# Altium schematic symbol library Chronos.SchLib: 115 symbols
Pins are listed as number, name and electrical type; pins without a type are passive.

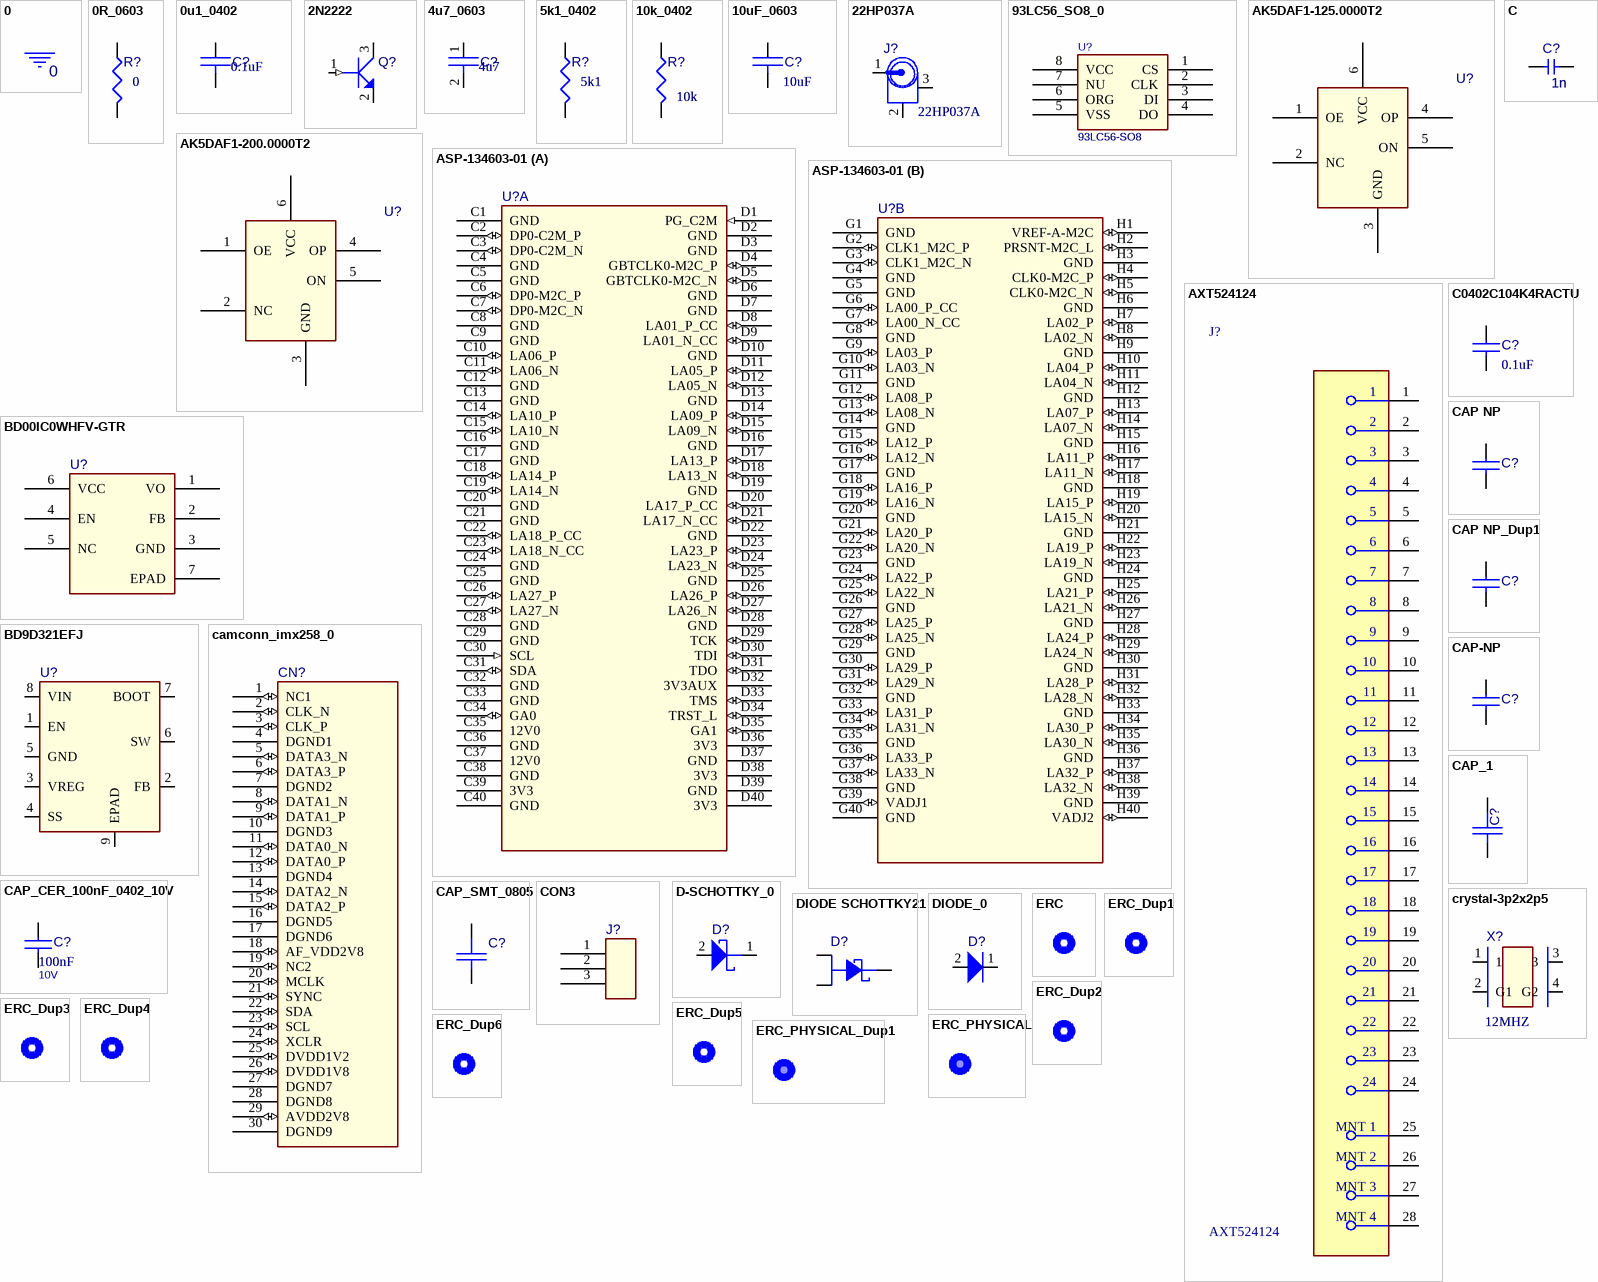
[diagram p0: symbols 0 to ERC_PHYSICAL_Dup1]

## 0
designator *  NODENAME: 0  (hidden comment: *)  (graphical)
PSpiceOnly: TRUE
pins: GND (power) hidden to GND

## 0R_0603
designator R?, comment 0
Res 1/10W 0.0 Ohm 5% 0603; Manufacturer: Yageo; Manufacturer Part Number: RC0603JR-070RL; Class: Discrete; Digikey P/N: 311-0.0GRTR-ND; Value: 0
footprint cr0603
pins: 1, 2

## 0u1_0402
designator C?, comment 0.1uF
CAP CERAMIC 0.1UF 16V X7R 0402; Manufacturer: Kemet; Manufacturer Part Number: C0402C104K4RACTU; Class: Discrete; Digikey P/N: 399-3521-2-ND; Value: 0.1uF
footprint cc0402
pins: 1, 2

## 2N2222
designator Q?
footprint SOT-23
pins: 1 BASE (in), 2 EMITTER, 3 COLLECTOR

## 4u7_0603
designator C?, comment 4u7
Cap Cer 4.7uF 6.3V 10% X5R 0603; Manufacturer Part Number: ECJ-1VB0J475K; Part Number: 102033; Manufacturer: Panasonic; Tolerance: 5%; Class: Discrete; Voltage: 6.3V; Digikey SN: PCC2006TR-ND; Value: 4u7
footprint cc0603
pins: 1, 2

## 5k1_0402
designator R?, comment 5k1
Res 1/16W 5.1K 1% 0402; Manufacturer Part Number: RC0402FR-075K1L; Manufacturer: Yageo; Class: Discrete; Digikey P/N: 311-5.10KLRTR-ND; Value: 5k1
footprint cr0402
pins: 1, 2

## 10k_0402
designator R?, comment 10k
Res 1/16W 10.0K 1% 0402; Manufacturer: Yageo; Manufacturer Part Number: RC0402FR-0710KL; Class: Discrete; Digikey P/N: 311-10.0KLRTR-ND; Value: 10k
footprint cr0402
pins: 1, 2

## 10uF_0603
designator C?, comment 10uF
CAP CECAP CER 10UF 10V X5R 20% 0603; Manufacturer: Taiyo Yuden; Manufacturer Part Number: LMK107BJ106MALTD; Class: Discrete; Digikey P/N: 587-2562-1-ND; Value: 10uF
footprint cc0603
pins: 1, 2

## 22HP037A
designator J?
Male Power Jack 2.5mm; Value: 22HP037A
footprint 22HP037A
pins: 1 +5V, 2 GND (power), 3 GND (power)

## 93LC56_SO8_0
designator U?, comment 93LC56-SO8
IC 93LC56 EEPROM; Manufacturer: Microchip; Manufacturer Part Number: 93LC56C-I/SN; Digikey P/N: 93LC56C-I/SN-ND; Class: IC; Value: 93LC56-SO8
footprint so8_50_244
pins: 1 CS, 2 CLK, 3 DI, 4 DO, 5 VSS (power), 6 ORG, 7 NU, 8 VCC (power)

## AK5DAF1-125.0000T2
designator U?
pins: 1 OE, 2 NC, 3 GND, 4 OP, 5 ON, 6 VCC

## AK5DAF1-200.0000T2
designator U?
pins: 1 OE, 2 NC, 3 GND, 4 OP, 5 ON, 6 VCC

## ASP-134603-01
designator U?
SPLIT_INST: TRUE; SWAP_INFO: (S1+S2)
part A pins: C1 GND (power), C2 DP0-C2M_P (io), C3 DP0-C2M_N (io), C4 GND (power), C5 GND (power), C6 DP0-M2C_P (io), C7 DP0-M2C_N (io), C8 GND (power), C9 GND (power), C10 LA06_P (io), C11 LA06_N (io), C12 GND (power), C13 GND (power), C14 LA10_P (io), C15 LA10_N (io), C16 GND (power), C17 GND (power), C18 LA14_P (io), C19 LA14_N (io), C20 GND (power), C21 GND (power), C22 LA18_P_CC (io), C23 LA18_N_CC (io), C24 GND (power), C25 GND (power), C26 LA27_P (io), C27 LA27_N (io), C28 GND (power), C29 GND (power), C30 SCL (in), C31 SDA (io), C32 GND (power), C33 GND (power), C34 GA0 (io), C35 12V0 (power), C36 GND (power), C37 12V0 (power), C38 GND (power), C39 3V3 (power), C40 GND (power), D1 PG_C2M (in), D2 GND (power), D3 GND (power), D4 GBTCLK0-M2C_P (io), D5 GBTCLK0-M2C_N (io), D6 GND (power), D7 GND (power), D8 LA01_P_CC (io), D9 LA01_N_CC (io), D10 GND (power), D11 LA05_P (io), D12 LA05_N (io), D13 GND (power), D14 LA09_P (io), D15 LA09_N (io), D16 GND (power), D17 LA13_P (io), D18 LA13_N (io), D19 GND (power), D20 LA17_P_CC (io), D21 LA17_N_CC (io), D22 GND (power), D23 LA23_P (io), D24 LA23_N (io), D25 GND (power), D26 LA26_P (io), D27 LA26_N (io), D28 GND (power), D29 TCK (io), D30 TDI (io), D31 TDO (io), D32 3V3AUX (power), D33 TMS (io), D34 TRST_L (io), D35 GA1 (io), D36 3V3 (power), D37 GND (power), D38 3V3 (power), D39 GND (power), D40 3V3 (power)
part B pins: G1 GND (power), G2 CLK1_M2C_P (io), G3 CLK1_M2C_N (io), G4 GND (power), G5 GND (power), G6 LA00_P_CC (io), G7 LA00_N_CC (io), G8 GND (power), G9 LA03_P (io), G10 LA03_N (io), G11 GND (power), G12 LA08_P (io), G13 LA08_N (io), G14 GND (power), G15 LA12_P (io), G16 LA12_N (io), G17 GND (power), G18 LA16_P (io), G19 LA16_N (io), G20 GND (power), G21 LA20_P (io), G22 LA20_N (io), G23 GND (power), G24 LA22_P (io), G25 LA22_N (io), G26 GND (power), G27 LA25_P (io), G28 LA25_N (io), G29 GND (power), G30 LA29_P (io), G31 LA29_N (io), G32 GND (power), G33 LA31_P (io), G34 LA31_N (io), G35 GND (power), G36 LA33_P (io), G37 LA33_N (io), G38 GND (power), G39 VADJ1 (io), G40 GND (power), H1 VREF-A-M2C (io), H2 PRSNT-M2C_L (io), H3 GND (power), H4 CLK0-M2C_P (io), H5 CLK0-M2C_N (io), H6 GND (power), H7 LA02_P (io), H8 LA02_N (io), H9 GND (power), H10 LA04_P (io), H11 LA04_N (io), H12 GND (power), H13 LA07_P (io), H14 LA07_N (io), H15 GND (power), H16 LA11_P (io), H17 LA11_N (io), H18 GND (power), H19 LA15_P (io), H20 LA15_N (io), H21 GND (power), H22 LA19_P (io), H23 LA19_N (io), H24 GND (power), H25 LA21_P (io), H26 LA21_N (io), H27 GND (power), H28 LA24_P (io), H29 LA24_N (io), H30 GND (power), H31 LA28_P (io), H32 LA28_N (io), H33 GND (power), H34 LA30_P (io), H35 LA30_N (io), H36 GND (power), H37 LA32_P (io), H38 LA32_N (io), H39 GND (power), H40 VADJ2 (io)

## AXT524124
designator J?
AXT524124 24 Position 0.4 mm Pitch Dual Row Board to Board Socket Narrow Pitch Connector; NexarPartId: 7879795; Max Current Rating: 5A; Mated Stacking Heights: 1mm; Current Rating: 300mA; Voltage Rating: 60V; Max Voltage Rating (DC): 6.06kV; Number of Positions: 24; Contact Resistance: 90mΩ; Insulation Resistance: 1GΩ; Gender: Receptacle; Pitch: 400µm; Orientation: Straight; Max Operating Temperature: 85°C; Packaging: Cut Tape (CT); Depth: 3mm; Housing Material: Polymer; Ambient Temperature Range High: 85°C; Contact Plating: Gold; Mount: Surface Mount; Termination: Solder; Lead Free: Lead Free; Max Voltage Rating (AC): 60V; Length: 7.3mm; Contact Material: Gold, Nickel; Min Operating Temperature: -55°C; Height: 1.17mm; Number of Contacts: 24; Radiation Hardening: No; Connector Type: Socket; Number of Rows: 2; RoHS: Compliant
footprint FP-AXT524124-MFG
pins: 1, 2, 3, 4, 5, 6, 7, 8, 9, 10, 11, 12, 13, 14, 15, 16, 17, 18, 19, 20, 21, 22, 23, 24, 25 MNT 1, 26 MNT 2, 27 MNT 3, 28 MNT 4

## BD00IC0WHFV-GTR
designator U?
pins: 1 VO (power), 2 FB (power), 3 GND (power), 4 EN (power), 5 NC (power), 6 VCC (power), 7 EPAD (power)

## BD9D321EFJ
designator U?
pins: 1 EN, 2 FB, 3 VREG, 4 SS, 5 GND, 6 SW, 7 BOOT, 8 VIN, 9 EPAD

## C
designator C?, comment 1n
DIST: FLAT; PSpiceTemplate: C^@REFDES %1 %2 ?TOLERANCE|C^@REFDES| @VALUE ?IC/IC=@IC/ ?TOLERANCE|\n.model C^@REFDES CAP C=1 DEV=@TOLERANCE%|; VOLTAGE: CMAX; CURRENT: CIMAX; KNEE: CBMAX; SLOPE: CSMAX; MAX_TEMP: CTMAX; Value: 1n
footprint RAD/CK05
simulation model C
pins: 1, 2

## C0402C104K4RACTU
designator C?, comment 0.1uF
CAP CER 0.1UF 16V 10% X7R 0402; MFG: TDK; Cost Ea/1k: 0.015; MFG P/N: C0402C104K4RACTU; Digikey P/N: 399-3521-2-ND; Value: 0.1uF
footprint cc0402
pins: 1, 2

## camconn_imx258_0
designator CN?
pins: 1 NC1 (io), 2 CLK_N (io), 3 CLK_P (io), 4 DGND1, 5 DATA3_N (io), 6 DATA3_P (io), 7 DGND2, 8 DATA1_N (io), 9 DATA1_P (io), 10 DGND3, 11 DATA0_N (io), 12 DATA0_P (io), 13 DGND4, 14 DATA2_N (io), 15 DATA2_P (io), 16 DGND5, 17 DGND6, 18 AF_VDD2V8 (io), 19 NC2 (io), 20 MCLK (io), 21 SYNC (io), 22 SDA (io), 23 SCL (io), 24 XCLR (io), 25 DVDD1V2 (io), 26 DVDD1V8 (io), 27 DGND7, 28 DGND8, 29 AVDD2V8 (io), 30 DGND9

## CAP NP
designator C?
pins: 1, 2

## CAP NP_Dup1
designator C?
pins: 1, 2

## CAP-NP
designator C?
footprint 0603
pins: 1, 2

## CAP_1
designator C?
footprint 0603SMT
pins: 1, 2

## CAP_CER_100nF_0402_10V
designator C?, comment 100nF  Voltage: 10V
CAP CER 100nf 10V 10% X5R 0402; Total Area(sq-mm): 0.5; MFG P/N: GRM155R61A104KA01D; MFG: Murata; Unit Price (USD): 0.1; Length(mm): 1; Width(mm): 0.5; Value: 100nF
footprint C0402
pins: 1, 2

## CAP_SMT_0805
designator C?
footprint 0603SMT
pins: 1, 2

## CON3
designator J?
pins: 1, 2, 3

## crystal-3p2x2p5
designator X?, comment 12MHZ
12Mhz Crystal; Manufacturer Part Number: 7M-12.000MAAJ-T; Manufacturer: TXC; Class: IC; Digikey P/N: 887-1121-2-ND; Value: 12MHZ
footprint crystal_4p_3p2x2p5
pins: 1, 2 G1, 3, 4 G2

## D-SCHOTTKY_0
designator D?
pins: 1, 2

## DIODE SCHOTTKY21
designator D?
pins: 1 Anode1, 2 Anode2, 3 K

## DIODE_0
designator D?
pins: 1, 2

## ERC
designator *  (value not drawn)  (graphical)

## ERC_Dup1
designator *  (value not drawn)  (graphical)

## ERC_Dup2
designator *  (value not drawn)  (graphical)

## ERC_Dup3
designator *  (value not drawn)  (graphical)

## ERC_Dup4
designator *  (value not drawn)  (graphical)

## ERC_Dup5
designator *  (value not drawn)  (graphical)

## ERC_Dup6
designator *  (value not drawn)  (graphical)

## ERC_PHYSICAL
designator *  (value not drawn)  (graphical)

## ERC_PHYSICAL_Dup1
designator *  (value not drawn)  (graphical)

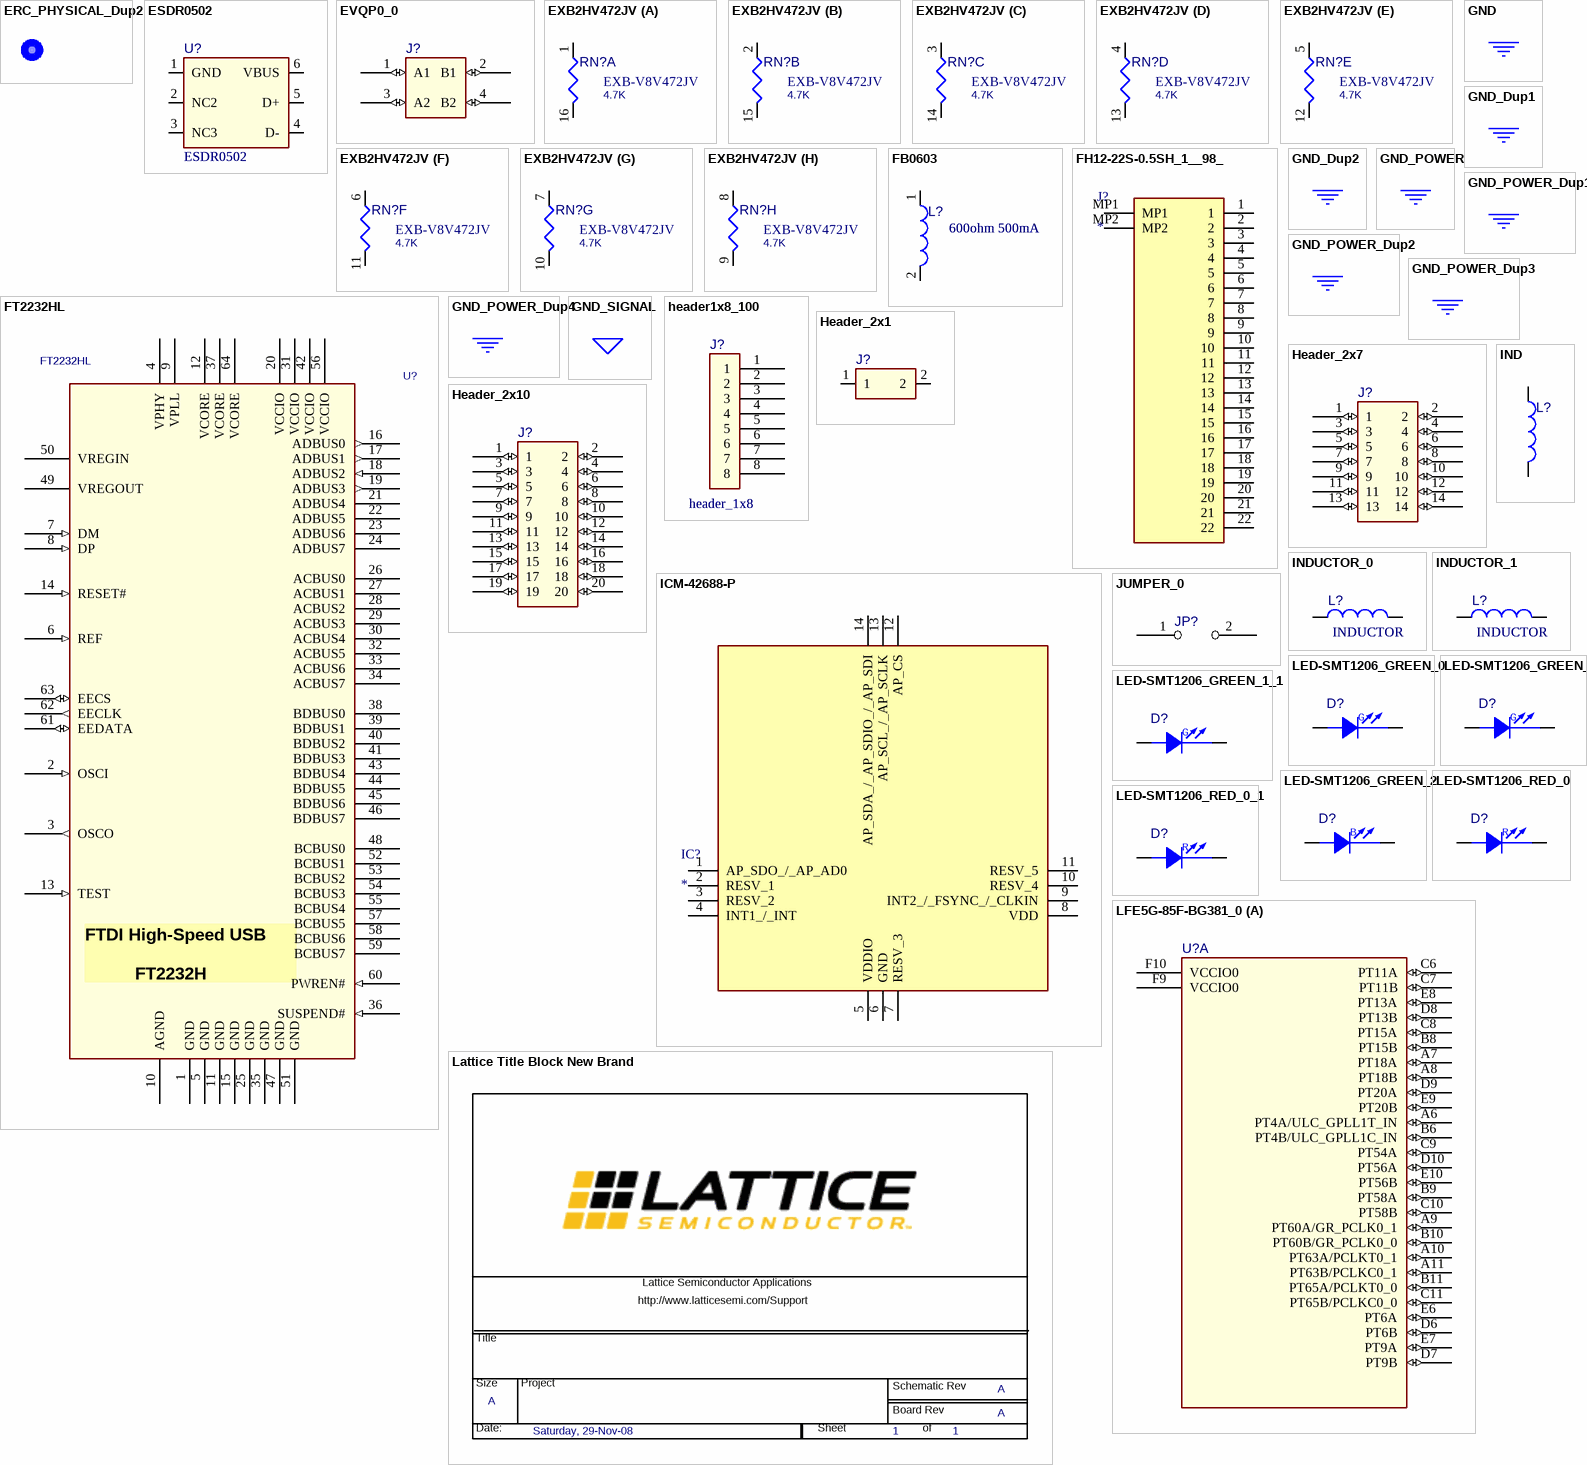
[diagram p1: symbols ERC_PHYSICAL_Dup2 to LFE5G-85F-BG381_0]

## ERC_PHYSICAL_Dup2
designator *  (value not drawn)  (graphical)

## ESDR0502
designator U?
ESD Protection - SLP2510P8 package 8-PIN; ALS LIB: L0000; CLASS: IC; Vendor: Digikey; MFG: Semtech; MFG P/N: RClamp0524P; Vendor P/N: RCLAMP0524PTR-ND; Value: ESDR0502
footprint ESDR0502
pins: 1 GND, 2 NC2, 3 NC3, 4 D-, 5 D+, 6 VBUS

## EVQP0_0
designator J?
pins: 1 A1 (io), 2 B1 (io), 3 A2 (io), 4 B2 (io)

## EXB2HV472JV
designator RN?, comment RESVALUE: 4.7K  (hidden comment: EXB-V8V472JV)
Value: EXB-V8V472JV
footprint EXB-2HV
part A pins: 1 8, 16 9
part B pins: 2 8, 15 9
part C pins: 3 8, 14 9
part D pins: 4 8, 13 9
part E pins: 5 8, 12 9
part F pins: 6 8, 11 9
part G pins: 7 8, 10 9
part H pins: 8, 9

## FB0603
designator L?, comment 600ohm 500mA
Ferrite Bead 600ohm@100MHz 500mA 0603; Manufacturer: Murata; Manufacturer Part Number: BLM18AG601SN1D; Class: Discrete; Digikey P/N: 490-1014-1-ND; Value: 600ohm 500mA
footprint FB0603
pins: 1, 2

## FH12-22S-0.5SH_1__98_
designator J?
Connector; Manufacturer_Name: Hirose; Manufacturer_Part_Number: FH12-22S-0.5SH(1)(98); Datasheet Link: https://www.hirose.com/en/product/document?clcode=CL0528-0014-1-98&productname=FH12-22S-0.5SH(1)(98)&series=FH12&documenttype=2DDrawing&lang=en&documentid=0001188303; Height: 2.2mm; Mouser Part Number: 798-FH1222S05SH198; Mouser Price/Stock: https://www.mouser.co.uk/ProductDetail/Hirose-Connector/FH12-22S-0.5SH198?qs=tTj%252BmQ3KZwZO1A%252B5eseZow%3D%3D
footprint FH1222S05SH198
pins: 1, 2, 3, 4, 5, 6, 7, 8, 9, 10, 11, 12, 13, 14, 15, 16, 17, 18, 19, 20, 21, 22, MP1, MP2

## FT2232HL
designator U?
USB to UART / FIFO; Manufacturer: FTDI; Class: IC; Manufacturer Part Number: FT2232HL; Digikey P/N: 768-1024-1-ND; Value: FT2232HL
footprint tqfp64_0p5_12p2x12p2_h1p6
pins: 1 GND (power), 2 OSCI (in), 3 OSCO (out), 4 VPHY (power), 5 GND (power), 6 REF (in), 7 DM (in), 8 DP (in), 9 VPLL (power), 10 AGND (power), 11 GND (power), 12 VCORE (power), 13 TEST (in), 14 RESET# (in), 15 GND (power), 16 ADBUS0 (out), 17 ADBUS1 (out), 18 ADBUS2 (in), 19 ADBUS3 (out), 20 VCCIO (power), 21 ADBUS4, 22 ADBUS5, 23 ADBUS6, 24 ADBUS7, 25 GND (power), 26 ACBUS0, 27 ACBUS1, 28 ACBUS2, 29 ACBUS3, 30 ACBUS4, 31 VCCIO (power), 32 ACBUS5, 33 ACBUS6, 34 ACBUS7, 35 GND (power), 36 SUSPEND# (in), 37 VCORE (power), 38 BDBUS0, 39 BDBUS1, 40 BDBUS2, 41 BDBUS3, 42 VCCIO (power), 43 BDBUS4, 44 BDBUS5, 45 BDBUS6, 46 BDBUS7, 47 GND (power), 48 BCBUS0, 49 VREGOUT (power), 50 VREGIN (power), 51 GND (power), 52 BCBUS1, 53 BCBUS2, 54 BCBUS3, 55 BCBUS4, 56 VCCIO (power), 57 BCBUS5, 58 BCBUS6, 59 BCBUS7, 60 PWREN# (in), 61 EEDATA (io), 62 EECLK (out), 63 EECS (io), 64 VCORE (power)
text: FTDI High-Speed USB / FT2232H

## GND
designator *  (value not drawn)  (graphical)
pins: $PIN0 (power) hidden to $PIN0

## GND_Dup1
designator *  (value not drawn)  (graphical)
pins: $PIN0 (power) hidden to $PIN0

## GND_Dup2
designator *  (value not drawn)  (graphical)
pins: $PIN0 (power) hidden to $PIN0

## GND_POWER
designator *  (value not drawn)  (graphical)
pins: GND (power) hidden to GND

## GND_POWER_Dup1
designator *  (value not drawn)  (graphical)
pins: GND (power) hidden to GND

## GND_POWER_Dup2
designator *  (value not drawn)  (graphical)
pins: GND (power) hidden to GND

## GND_POWER_Dup3
designator *  (value not drawn)  (graphical)
pins: GND (power) hidden to GND

## GND_POWER_Dup4
designator *  (value not drawn)  (graphical)
SDTSourceLibName: C:\rd\ui\DEVICE.LIB
pins: GND (power) hidden to GND

## GND_SIGNAL
designator *  (value not drawn)  (graphical)
pins: GND (power) hidden to GND

## header1x8_100
designator J?, comment header_1x8
Header 1x8; Manufacturer: Molex; Class: IO; Digikey P/N: WM6608-ND; Manufacturer Part Number: 22-28-4081; Value: header_1x8
footprint hdr_amp_87220_8_1x8_100
pins: 1, 2, 3, 4, 5, 6, 7, 8

## Header_2x1
designator J?
pins: 1, 2

## Header_2x7
designator J?
pins: 1 (io), 2 (io), 3 (io), 4 (io), 5 (io), 6 (io), 7 (io), 8 (io), 9 (io), 10 (io), 11 (io), 12 (io), 13 (io), 14 (io)

## Header_2x10
designator J?
pins: 1 (io), 2 (io), 3 (io), 4 (io), 5 (io), 6 (io), 7 (io), 8 (io), 9 (io), 10 (io), 11 (io), 12 (io), 13 (io), 14 (io), 15 (io), 16 (io), 17 (io), 18 (io), 19 (io), 20 (io)

## ICM-42688-P
designator IC?
Integrated Circuit; Manufacturer_Name: TDK; Manufacturer_Part_Number: ICM-42688-P; Datasheet Link: https://3cfeqx1hf82y3xcoull08ihx-wpengine.netdna-ssl.com/wp-content/uploads/2021/06/DS-000347-ICM-42688-P-v1.5.pdf; Mouser Part Number: 410-ICM-42688-P; Mouser Price/Stock: https://www.mouser.co.uk/ProductDetail/TDK-InvenSense/ICM-42688-P?qs=OlC7AqGiEDk8QrNAV728zw%3D%3D; Arrow Part Number: ICM-42688-P; Arrow Price/Stock: https://www.arrow.com/en/products/icm-42688-p/invensense?utm_currency=USD&region=nac
footprint IIM42352
pins: 1 AP_SDO_/_AP_AD0, 2 RESV_1, 3 RESV_2, 4 INT1_/_INT, 5 VDDIO, 6 GND, 7 RESV_3, 8 VDD, 9 INT2_/_FSYNC_/_CLKIN, 10 RESV_4, 11 RESV_5, 12 AP_CS, 13 AP_SCL_/_AP_SCLK, 14 AP_SDA_/_AP_SDIO_/_AP_SDI

## IND
designator L?
pins: 1, 2

## INDUCTOR_0
designator L?, comment INDUCTOR
Value: INDUCTOR
footprint RC1210
pins: 1, 2

## INDUCTOR_1
designator L?, comment INDUCTOR
Value: INDUCTOR
footprint RC1210
pins: 1, 2

## JUMPER_0
designator JP?
pins: 1, 2

## Lattice Title Block New Brand
designator *  Board Rev: A  Date:: Saturday, 29-Nov-08  Page Count: 1  (hidden comment: *)  (graphical)
Page Size: A; RevCode: A; Page Number: 1
text: Lattice Semiconductor Applications; http://www.latticesemi.com/Support; Title; Size; Project; Schematic Rev; Board Rev; Date:; Sheet; of

## LED-SMT1206_GREEN_0
designator D?
pins: 1 CATHODE, 2 ANODE
text: G

## LED-SMT1206_GREEN_1
designator D?
pins: 1 CATHODE, 2 ANODE
text: G

## LED-SMT1206_GREEN_1_1
designator D?
pins: 1 CATHODE, 2 ANODE
text: G

## LED-SMT1206_GREEN_2
designator D?
pins: 1 CATHODE, 2 ANODE
text: B

## LED-SMT1206_RED_0
designator D?
pins: 1 CATHODE, 2 ANODE
text: R

## LED-SMT1206_RED_0_1
designator D?
pins: 1 CATHODE, 2 ANODE
text: R

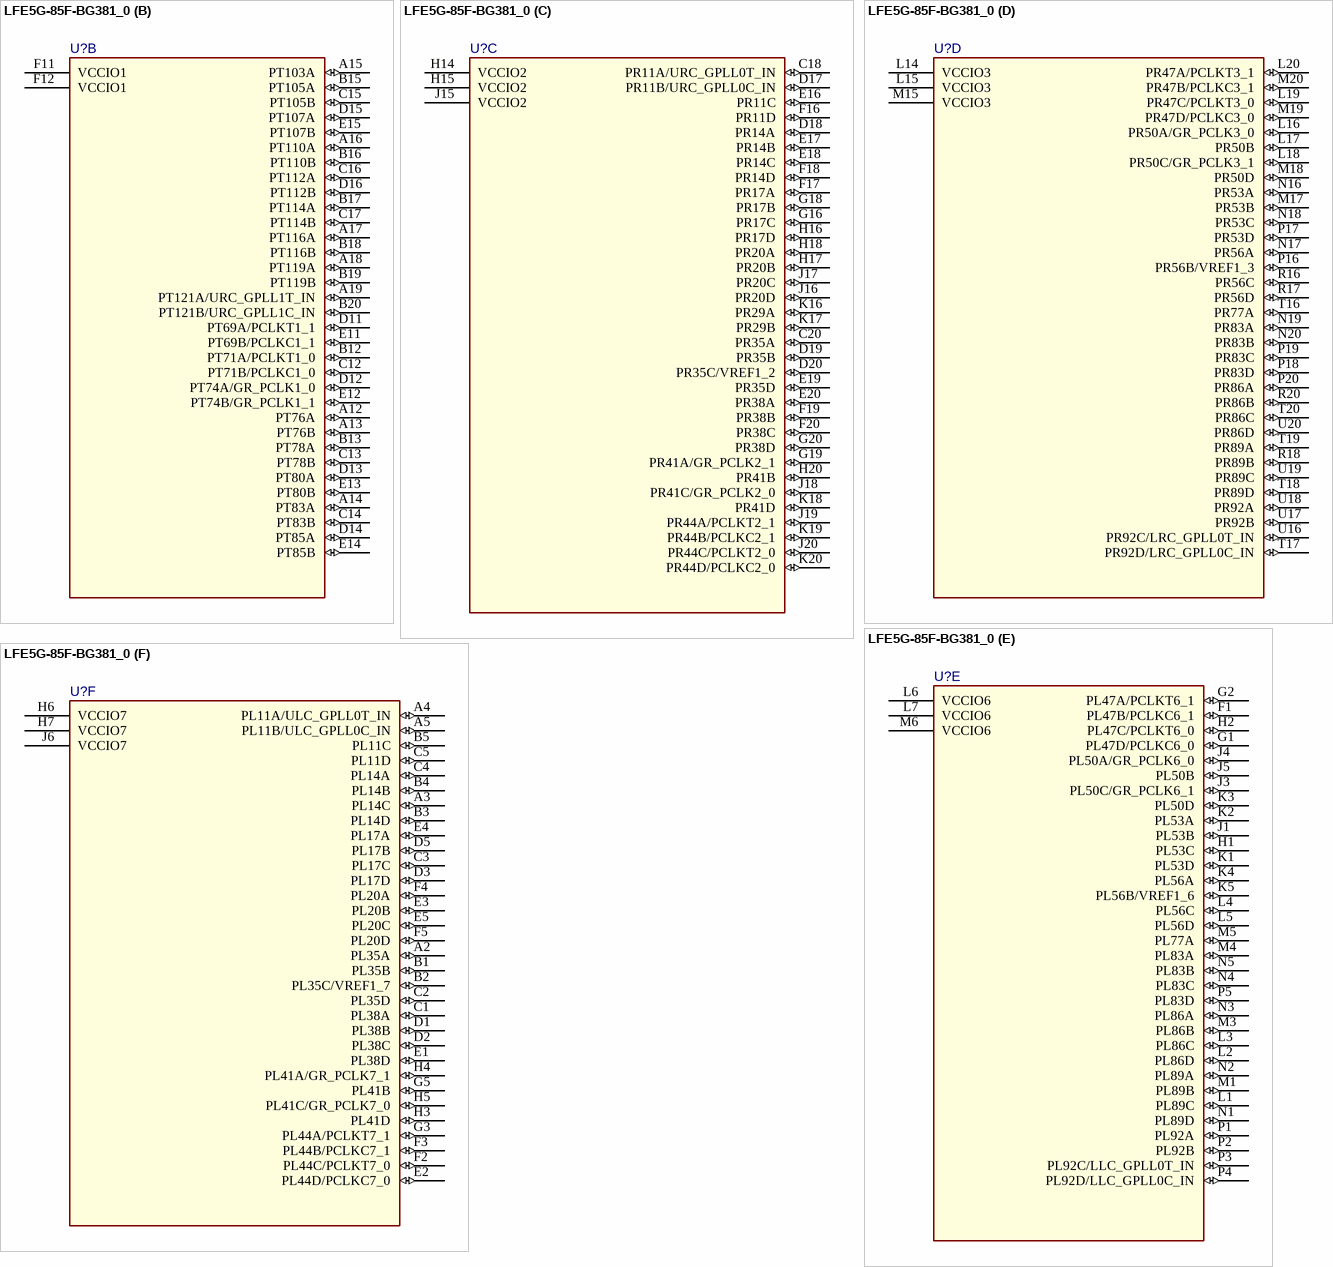
[diagram p2: symbol LFE5G-85F-BG381_0]

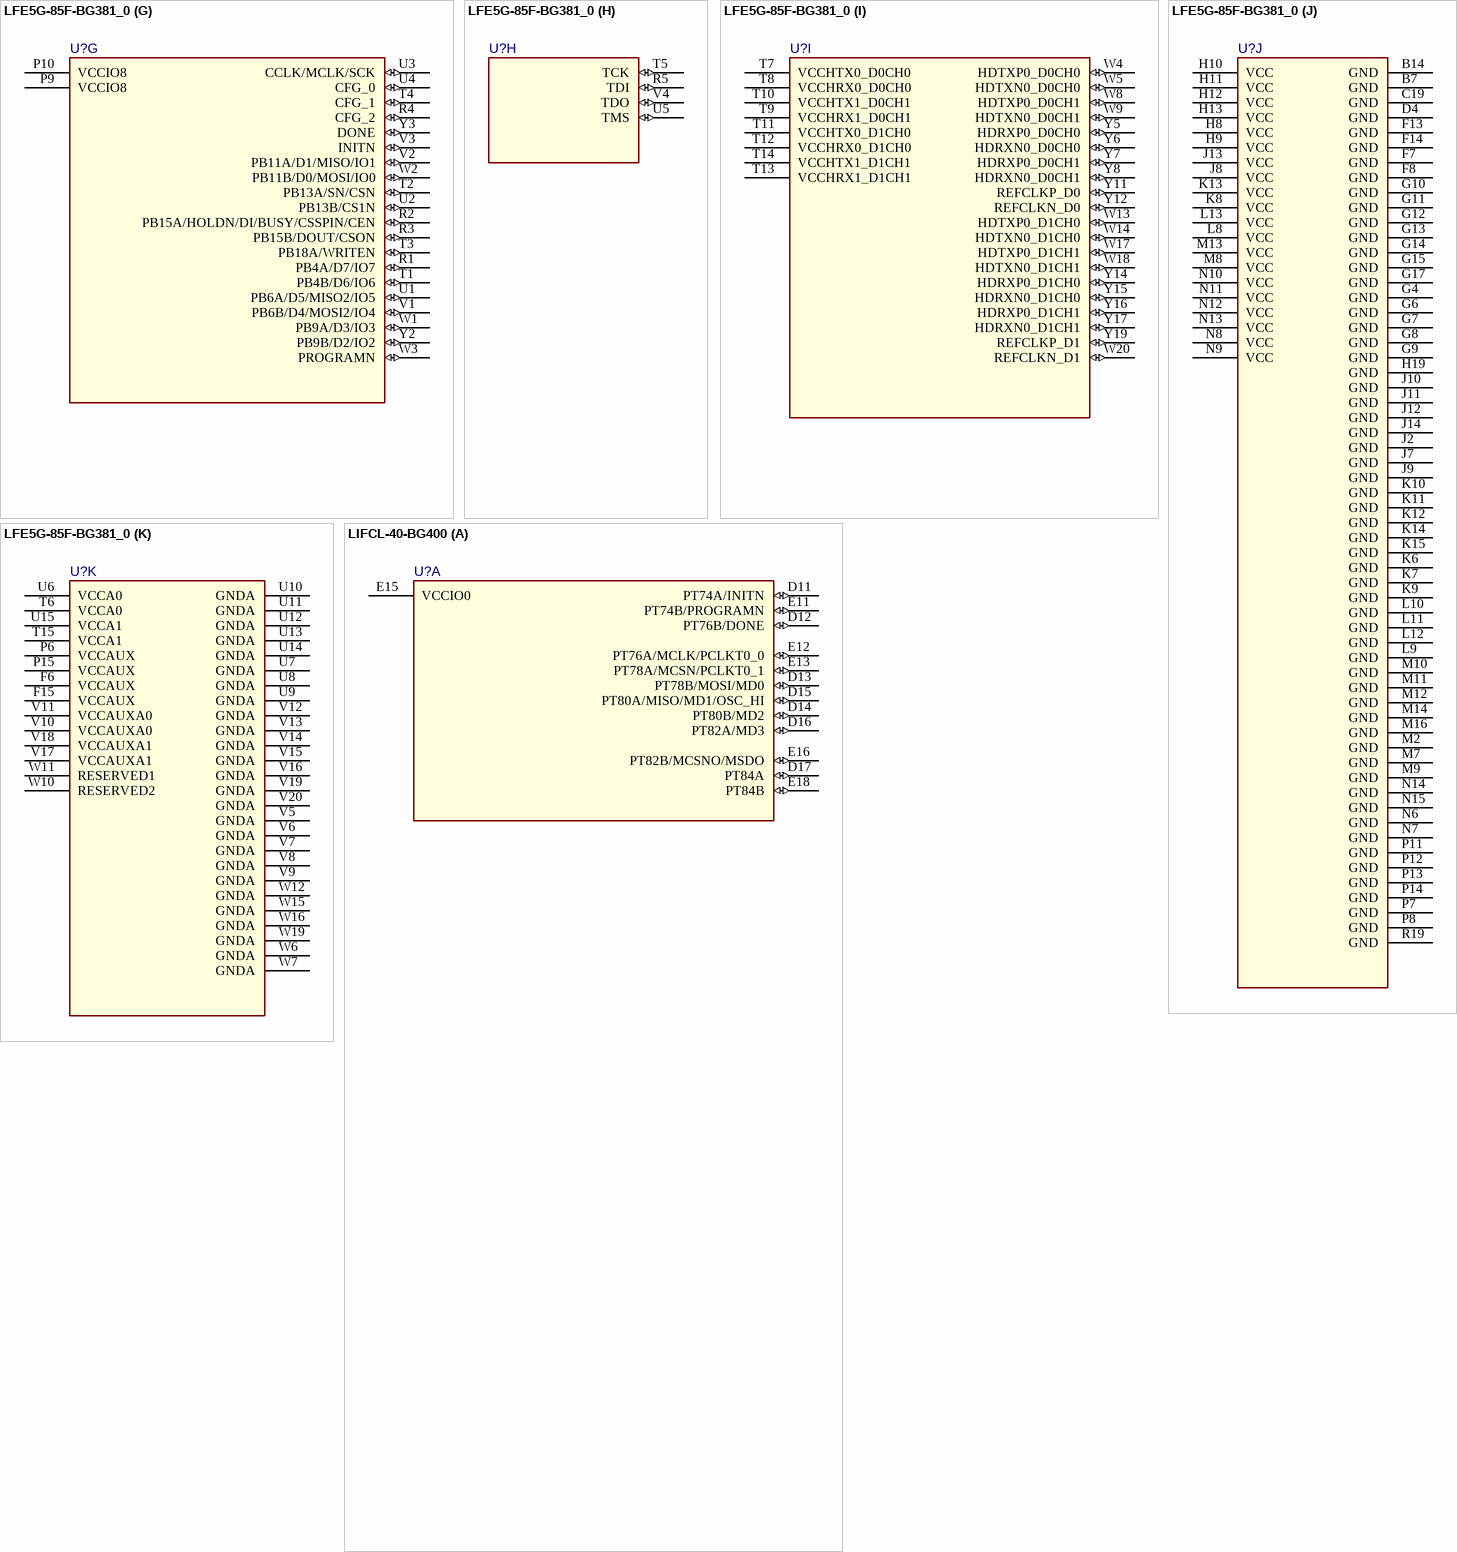
[diagram p3: symbols LFE5G-85F-BG381_0 to LIFCL-40-BG400]

## LFE5G-85F-BG381_0
designator U?
SPLIT_INST: TRUE; SWAP_INFO: (S1+S2+S3+S4+S5+S6+S7+S8+S9+S10+S11)
part A pins: A6 PT4A/ULC_GPLL1T_IN (io), A7 PT18A (io), A8 PT18B (io), A9 PT60A/GR_PCLK0_1 (io), A10 PT63A/PCLKT0_1 (io), A11 PT63B/PCLKC0_1 (io), B6 PT4B/ULC_GPLL1C_IN (io), B8 PT15B (io), B9 PT58A (io), B10 PT60B/GR_PCLK0_0 (io), B11 PT65A/PCLKT0_0 (io), C6 PT11A (io), C7 PT11B (io), C8 PT15A (io), C9 PT54A (io), C10 PT58B (io), C11 PT65B/PCLKC0_0 (io), D6 PT6B (io), D7 PT9B (io), D8 PT13B (io), D9 PT20A (io), D10 PT56A (io), E6 PT6A (io), E7 PT9A (io), E8 PT13A (io), E9 PT20B (io), E10 PT56B (io), F9 VCCIO0 (power), F10 VCCIO0 (power)
part B pins: A12 PT76A (io), A13 PT76B (io), A14 PT83A (io), A15 PT103A (io), A16 PT110A (io), A17 PT116A (io), A18 PT119A (io), A19 PT121A/URC_GPLL1T_IN (io), B12 PT71A/PCLKT1_0 (io), B13 PT78A (io), B15 PT105A (io), B16 PT110B (io), B17 PT114A (io), B18 PT116B (io), B19 PT119B (io), B20 PT121B/URC_GPLL1C_IN (io), C12 PT71B/PCLKC1_0 (io), C13 PT78B (io), C14 PT83B (io), C15 PT105B (io), C16 PT112A (io), C17 PT114B (io), D11 PT69A/PCLKT1_1 (io), D12 PT74A/GR_PCLK1_0 (io), D13 PT80A (io), D14 PT85A (io), D15 PT107A (io), D16 PT112B (io), E11 PT69B/PCLKC1_1 (io), E12 PT74B/GR_PCLK1_1 (io), E13 PT80B (io), E14 PT85B (io), E15 PT107B (io), F11 VCCIO1 (power), F12 VCCIO1 (power)
part C pins: C18 PR11A/URC_GPLL0T_IN (io), C20 PR35A (io), D17 PR11B/URC_GPLL0C_IN (io), D18 PR14A (io), D19 PR35B (io), D20 PR35C/VREF1_2 (io), E16 PR11C (io), E17 PR14B (io), E18 PR14C (io), E19 PR35D (io), E20 PR38A (io), F16 PR11D (io), F17 PR17A (io), F18 PR14D (io), F19 PR38B (io), F20 PR38C (io), G16 PR17C (io), G18 PR17B (io), G19 PR41A/GR_PCLK2_1 (io), G20 PR38D (io), H14 VCCIO2 (power), H15 VCCIO2 (power), H16 PR17D (io), H17 PR20B (io), H18 PR20A (io), H20 PR41B (io), J15 VCCIO2 (power), J16 PR20D (io), J17 PR20C (io), J18 PR41C/GR_PCLK2_0 (io), J19 PR44A/PCLKT2_1 (io), J20 PR44C/PCLKT2_0 (io), K16 PR29A (io), K17 PR29B (io), K18 PR41D (io), K19 PR44B/PCLKC2_1 (io), K20 PR44D/PCLKC2_0 (io)
part D pins: L14 VCCIO3 (power), L15 VCCIO3 (power), L16 PR50A/GR_PCLK3_0 (io), L17 PR50B (io), L18 PR50C/GR_PCLK3_1 (io), L19 PR47C/PCLKT3_0 (io), L20 PR47A/PCLKT3_1 (io), M15 VCCIO3 (power), M17 PR53B (io), M18 PR50D (io), M19 PR47D/PCLKC3_0 (io), M20 PR47B/PCLKC3_1 (io), N16 PR53A (io), N17 PR56A (io), N18 PR53C (io), N19 PR83A (io), N20 PR83B (io), P16 PR56B/VREF1_3 (io), P17 PR53D (io), P18 PR83D (io), P19 PR83C (io), P20 PR86A (io), R16 PR56C (io), R17 PR56D (io), R18 PR89B (io), R20 PR86B (io), T16 PR77A (io), T17 PR92D/LRC_GPLL0C_IN (io), T18 PR89D (io), T19 PR89A (io), T20 PR86C (io), U16 PR92C/LRC_GPLL0T_IN (io), U17 PR92B (io), U18 PR92A (io), U19 PR89C (io), U20 PR86D (io)
part E pins: F1 PL47B/PCLKC6_1 (io), G1 PL47D/PCLKC6_0 (io), G2 PL47A/PCLKT6_1 (io), H1 PL53C (io), H2 PL47C/PCLKT6_0 (io), J1 PL53B (io), J3 PL50C/GR_PCLK6_1 (io), J4 PL50A/GR_PCLK6_0 (io), J5 PL50B (io), K1 PL53D (io), K2 PL53A (io), K3 PL50D (io), K4 PL56A (io), K5 PL56B/VREF1_6 (io), L1 PL89C (io), L2 PL86D (io), L3 PL86C (io), L4 PL56C (io), L5 PL56D (io), L6 VCCIO6 (power), L7 VCCIO6 (power), M1 PL89B (io), M3 PL86B (io), M4 PL83A (io), M5 PL77A (io), M6 VCCIO6 (power), N1 PL89D (io), N2 PL89A (io), N3 PL86A (io), N4 PL83C (io), N5 PL83B (io), P1 PL92A (io), P2 PL92B (io), P3 PL92C/LLC_GPLL0T_IN (io), P4 PL92D/LLC_GPLL0C_IN (io), P5 PL83D (io)
part F pins: A2 PL35A (io), A3 PL14C (io), A4 PL11A/ULC_GPLL0T_IN (io), A5 PL11B/ULC_GPLL0C_IN (io), B1 PL35B (io), B2 PL35C/VREF1_7 (io), B3 PL14D (io), B4 PL14B (io), B5 PL11C (io), C1 PL38A (io), C2 PL35D (io), C3 PL17C (io), C4 PL14A (io), C5 PL11D (io), D1 PL38B (io), D2 PL38C (io), D3 PL17D (io), D5 PL17B (io), E1 PL38D (io), E2 PL44D/PCLKC7_0 (io), E3 PL20B (io), E4 PL17A (io), E5 PL20C (io), F2 PL44C/PCLKT7_0 (io), F3 PL44B/PCLKC7_1 (io), F4 PL20A (io), F5 PL20D (io), G3 PL44A/PCLKT7_1 (io), G5 PL41B (io), H3 PL41D (io), H4 PL41A/GR_PCLK7_1 (io), H5 PL41C/GR_PCLK7_0 (io), H6 VCCIO7 (power), H7 VCCIO7 (power), J6 VCCIO7 (power)
part G pins: P9 VCCIO8 (power), P10 VCCIO8 (power), R1 PB4A/D7/IO7 (io), R2 PB15A/HOLDN/DI/BUSY/CSSPIN/CEN (io), R3 PB15B/DOUT/CSON (io), R4 CFG_2 (io), T1 PB4B/D6/IO6 (io), T2 PB13A/SN/CSN (io), T3 PB18A/WRITEN (io), T4 CFG_1 (io), U1 PB6A/D5/MISO2/IO5 (io), U2 PB13B/CS1N (io), U3 CCLK/MCLK/SCK (io), U4 CFG_0 (io), V1 PB6B/D4/MOSI2/IO4 (io), V2 PB11A/D1/MISO/IO1 (io), V3 INITN (io), W1 PB9A/D3/IO3 (io), W2 PB11B/D0/MOSI/IO0 (io), W3 PROGRAMN (io), Y2 PB9B/D2/IO2 (io), Y3 DONE (io)
part H pins: R5 TDI (io), T5 TCK (io), U5 TMS (io), V4 TDO (io)
part I pins: T7 VCCHTX0_D0CH0 (power), T8 VCCHRX0_D0CH0 (power), T9 VCCHRX1_D0CH1 (power), T10 VCCHTX1_D0CH1 (power), T11 VCCHTX0_D1CH0 (power), T12 VCCHRX0_D1CH0 (power), T13 VCCHRX1_D1CH1 (power), T14 VCCHTX1_D1CH1 (power), W4 HDTXP0_D0CH0 (io), W5 HDTXN0_D0CH0 (io), W8 HDTXP0_D0CH1 (io), W9 HDTXN0_D0CH1 (io), W13 HDTXP0_D1CH0 (io), W14 HDTXN0_D1CH0 (io), W17 HDTXP0_D1CH1 (io), W18 HDTXN0_D1CH1 (io), W20 REFCLKN_D1 (io), Y5 HDRXP0_D0CH0 (io), Y6 HDRXN0_D0CH0 (io), Y7 HDRXP0_D0CH1 (io), Y8 HDRXN0_D0CH1 (io), Y11 REFCLKP_D0 (io), Y12 REFCLKN_D0 (io), Y14 HDRXP0_D1CH0 (io), Y15 HDRXN0_D1CH0 (io), Y16 HDRXP0_D1CH1 (io), Y17 HDRXN0_D1CH1 (io), Y19 REFCLKP_D1 (io)
part J pins: B7 GND (power), B14 GND (power), C19 GND (power), D4 GND (power), F7 GND (power), F8 GND (power), F13 GND (power), F14 GND (power), G4 GND (power), G6 GND (power), G7 GND (power), G8 GND (power), G9 GND (power), G10 GND (power), G11 GND (power), G12 GND (power), G13 GND (power), G14 GND (power), G15 GND (power), G17 GND (power), H8 VCC (power), H9 VCC (power), H10 VCC (power), H11 VCC (power), H12 VCC (power), H13 VCC (power), H19 GND (power), J2 GND (power), J7 GND (power), J8 VCC (power), J9 GND (power), J10 GND (power), J11 GND (power), J12 GND (power), J13 VCC (power), J14 GND (power), K6 GND (power), K7 GND (power), K8 VCC (power), K9 GND (power), K10 GND (power), K11 GND (power), K12 GND (power), K13 VCC (power), K14 GND (power), K15 GND (power), L8 VCC (power), L9 GND (power), L10 GND (power), L11 GND (power), L12 GND (power), L13 VCC (power), M2 GND (power), M7 GND (power), M8 VCC (power), M9 GND (power), M10 GND (power), M11 GND (power), M12 GND (power), M13 VCC (power), M14 GND (power), M16 GND (power), N6 GND (power), N7 GND (power), N8 VCC (power), N9 VCC (power), N10 VCC (power), N11 VCC (power), N12 VCC (power), N13 VCC (power), N14 GND (power), N15 GND (power), P7 GND (power), P8 GND (power), P11 GND (power), P12 GND (power), P13 GND (power), P14 GND (power), R19 GND (power)
part K pins: F6 VCCAUX (power), F15 VCCAUX (power), P6 VCCAUX (power), P15 VCCAUX (power), T6 VCCA0 (power), T15 VCCA1 (power), U6 VCCA0 (power), U7 GNDA (power), U8 GNDA (power), U9 GNDA (power), U10 GNDA (power), U11 GNDA (power), U12 GNDA (power), U13 GNDA (power), U14 GNDA (power), U15 VCCA1 (power), V5 GNDA (power), V6 GNDA (power), V7 GNDA (power), V8 GNDA (power), V9 GNDA (power), V10 VCCAUXA0 (power), V11 VCCAUXA0 (power), V12 GNDA (power), V13 GNDA (power), V14 GNDA (power), V15 GNDA (power), V16 GNDA (power), V17 VCCAUXA1 (power), V18 VCCAUXA1 (power), V19 GNDA (power), V20 GNDA (power), W6 GNDA (power), W7 GNDA (power), W10 RESERVED2, W11 RESERVED1, W12 GNDA (power), W15 GNDA (power), W16 GNDA (power), W19 GNDA (power)

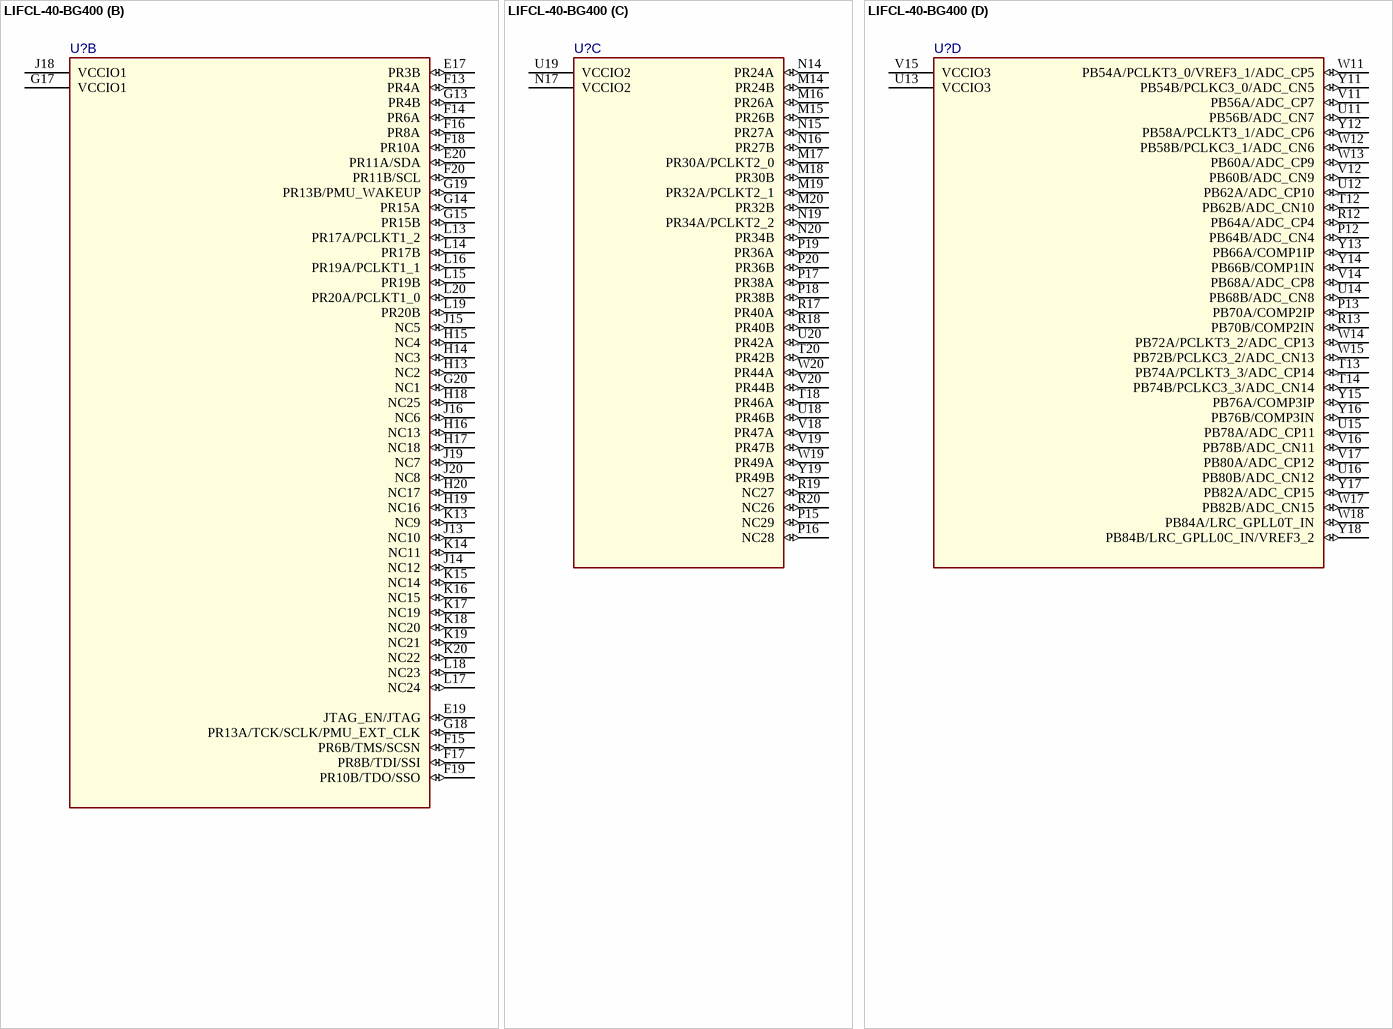
[diagram p4: symbol LIFCL-40-BG400]

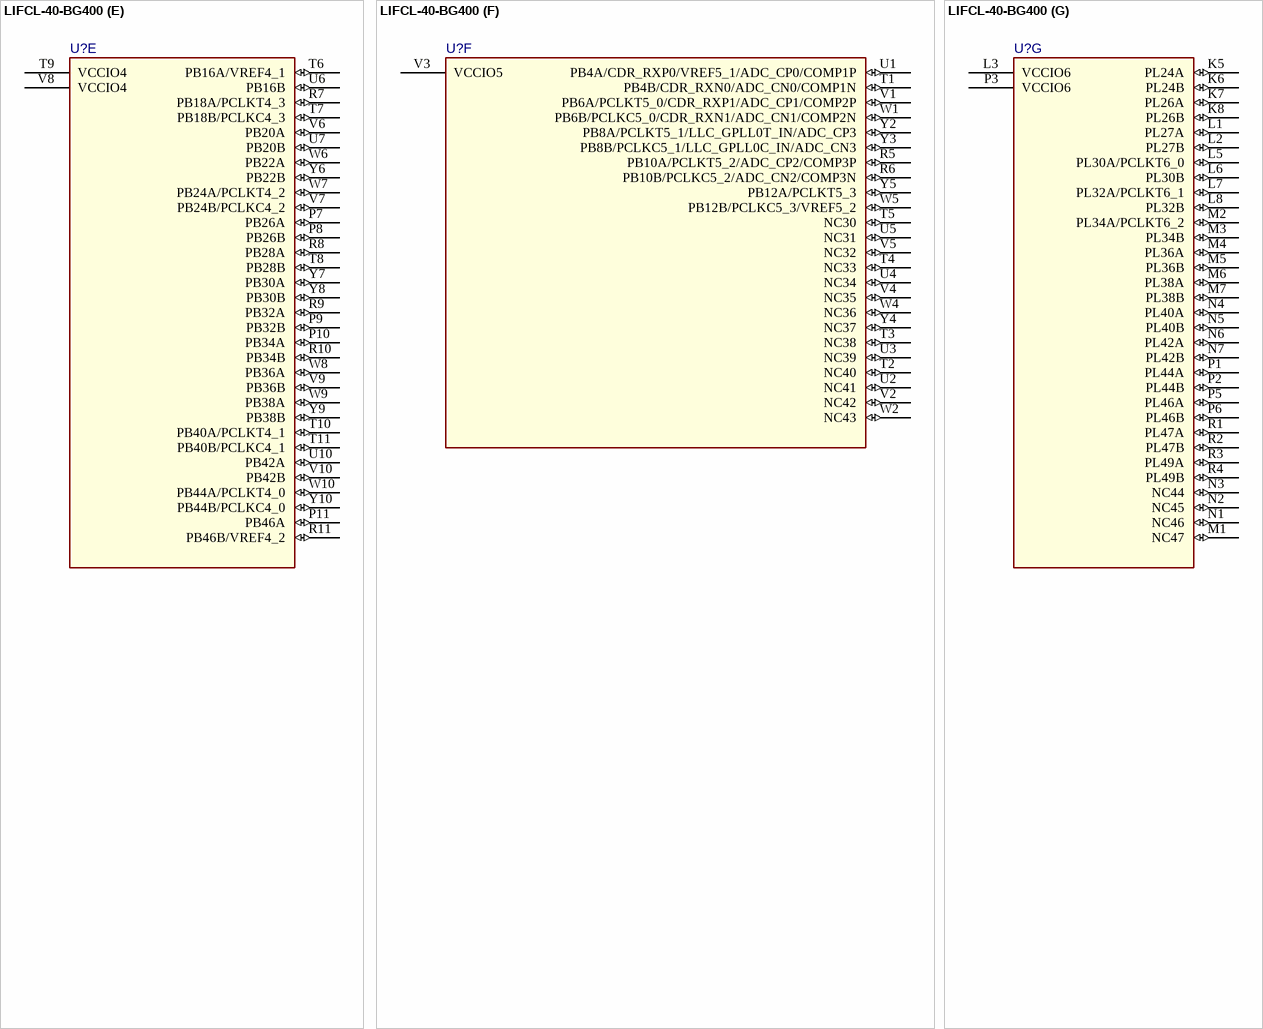
[diagram p5: symbol LIFCL-40-BG400]

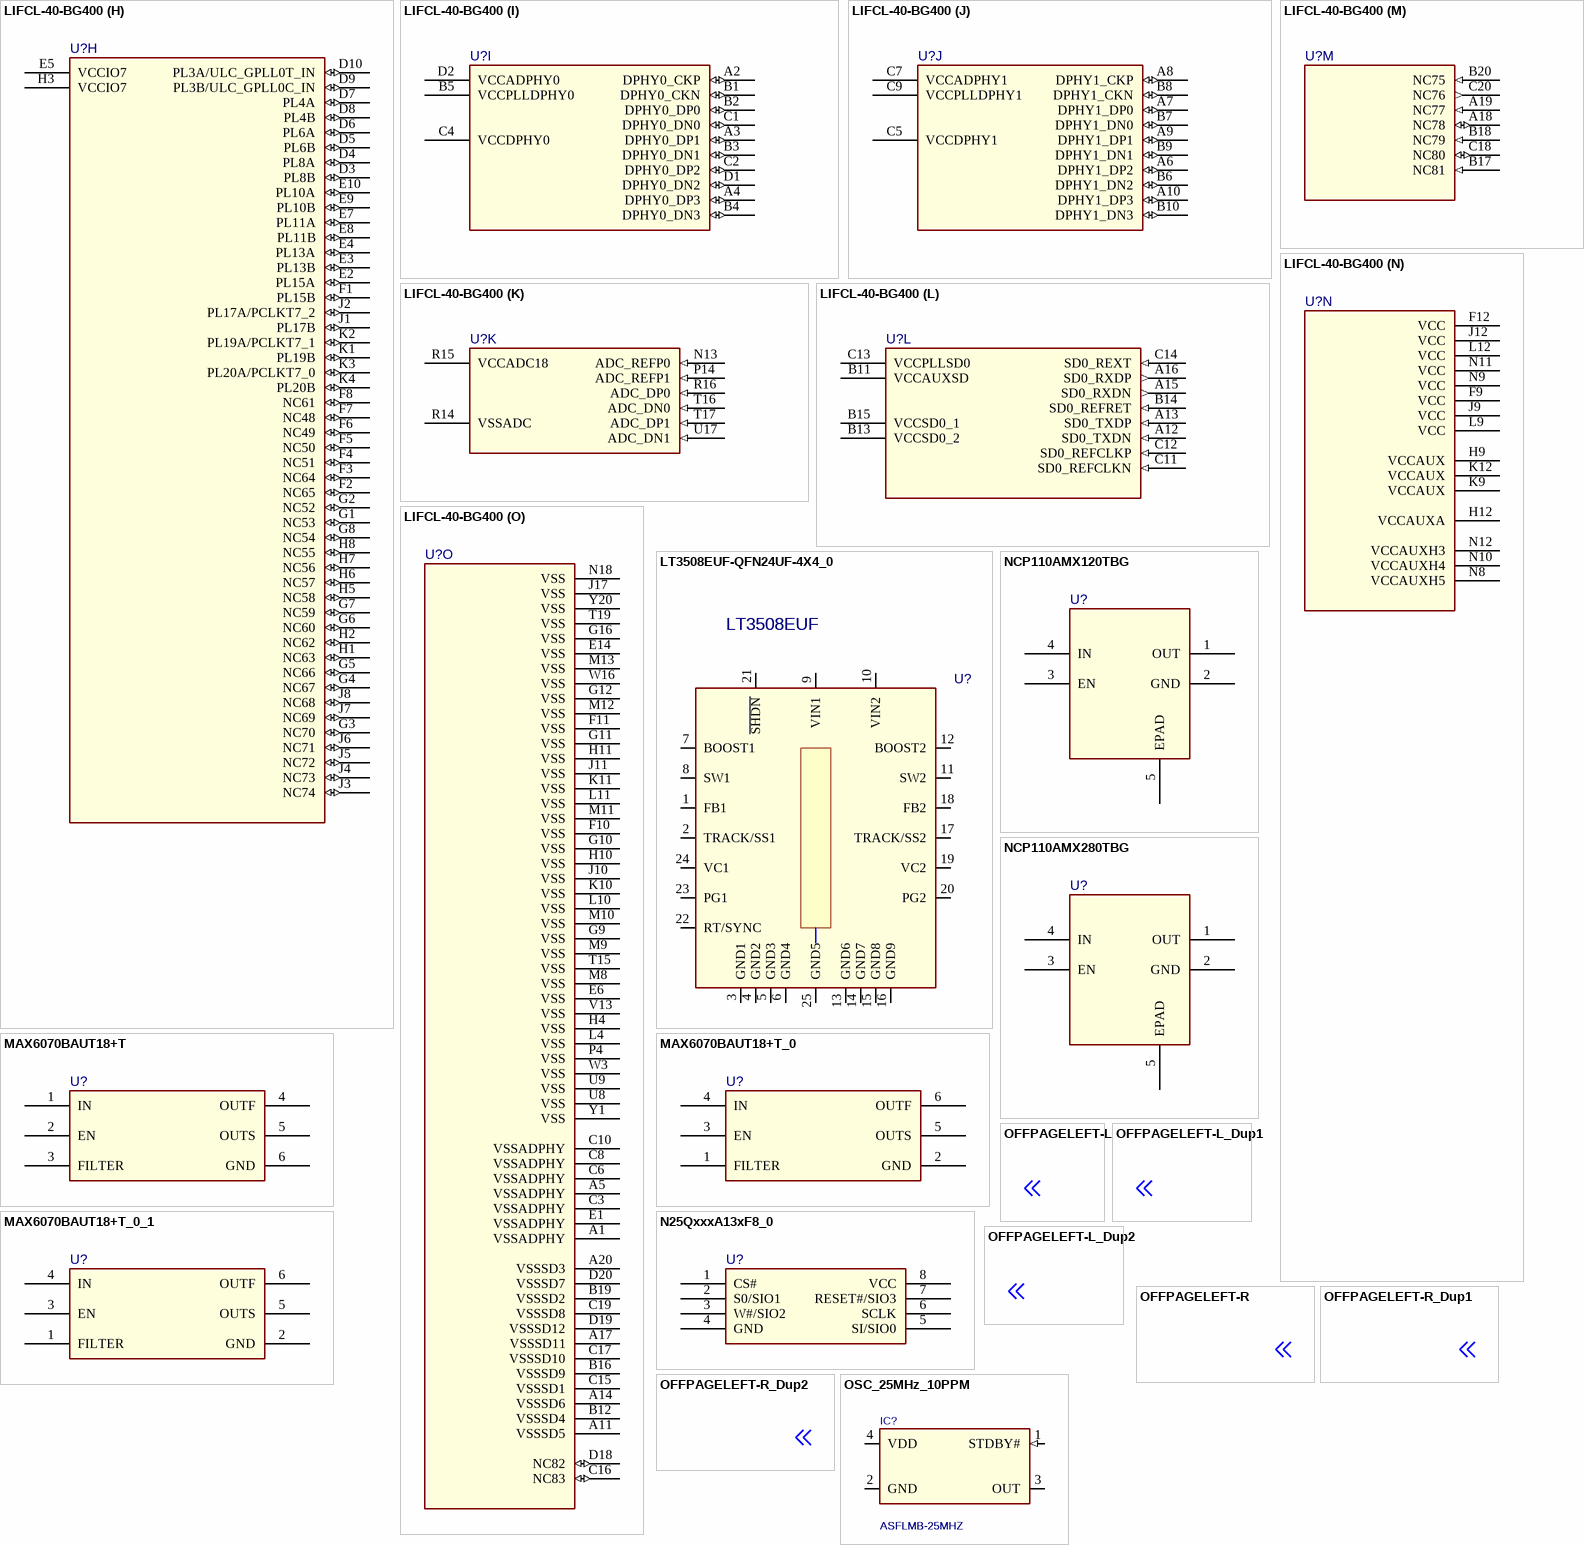
[diagram p6: symbols LIFCL-40-BG400 to OSC_25MHz_10PPM]

## LIFCL-40-BG400
designator U?
SWAP_INFO: (S1+S2+S3+S4+S5+S6+S7+S8+S9+S10+S11+S12+S13+S14+S15); SPLIT_INST: TRUE
part A pins: D11 PT74A/INITN (io), D12 PT76B/DONE (io), D13 PT78B/MOSI/MD0 (io), D14 PT80B/MD2 (io), D15 PT80A/MISO/MD1/OSC_HI (io), D16 PT82A/MD3 (io), D17 PT84A (io), E11 PT74B/PROGRAMN (io), E12 PT76A/MCLK/PCLKT0_0 (io), E13 PT78A/MCSN/PCLKT0_1 (io), E15 VCCIO0 (power), E16 PT82B/MCSNO/MSDO (io), E18 PT84B (io)
part B pins: E17 PR3B (io), E19 JTAG_EN/JTAG (io), E20 PR11A/SDA (io), F13 PR4A (io), F14 PR6A (io), F15 PR6B/TMS/SCSN (io), F16 PR8A (io), F17 PR8B/TDI/SSI (io), F18 PR10A (io), F19 PR10B/TDO/SSO (io), F20 PR11B/SCL (io), G13 PR4B (io), G14 PR15A (io), G15 PR15B (io), G17 VCCIO1 (power), G18 PR13A/TCK/SCLK/PMU_EXT_CLK (io), G19 PR13B/PMU_WAKEUP (io), G20 NC1 (io), H13 NC2 (io), H14 NC3 (io), H15 NC4 (io), H16 NC13 (io), H17 NC18 (io), H18 NC25 (io), H19 NC16 (io), H20 NC17 (io), J13 NC10 (io), J14 NC12 (io), J15 NC5 (io), J16 NC6 (io), J18 VCCIO1 (power), J19 NC7 (io), J20 NC8 (io), K13 NC9 (io), K14 NC11 (io), K15 NC14 (io), K16 NC15 (io), K17 NC19 (io), K18 NC20 (io), K19 NC21 (io), K20 NC22 (io), L13 PR17A/PCLKT1_2 (io), L14 PR17B (io), L15 PR19B (io), L16 PR19A/PCLKT1_1 (io), L17 NC24 (io), L18 NC23 (io), L19 PR20B (io), L20 PR20A/PCLKT1_0 (io)
part C pins: M14 PR24B (io), M15 PR26B (io), M16 PR26A (io), M17 PR30A/PCLKT2_0 (io), M18 PR30B (io), M19 PR32A/PCLKT2_1 (io), M20 PR32B (io), N14 PR24A (io), N15 PR27A (io), N16 PR27B (io), N17 VCCIO2 (power), N19 PR34A/PCLKT2_2 (io), N20 PR34B (io), P15 NC29 (io), P16 NC28 (io), P17 PR38A (io), P18 PR38B (io), P19 PR36A (io), P20 PR36B (io), R17 PR40A (io), R18 PR40B (io), R19 NC27 (io), R20 NC26 (io), T18 PR46A (io), T20 PR42B (io), U18 PR46B (io), U19 VCCIO2 (power), U20 PR42A (io), V18 PR47A (io), V19 PR47B (io), V20 PR44B (io), W19 PR49A (io), W20 PR44A (io), Y19 PR49B (io)
part D pins: P12 PB64B/ADC_CN4 (io), P13 PB70A/COMP2IP (io), R12 PB64A/ADC_CP4 (io), R13 PB70B/COMP2IN (io), T12 PB62B/ADC_CN10 (io), T13 PB74A/PCLKT3_3/ADC_CP14 (io), T14 PB74B/PCLKC3_3/ADC_CN14 (io), U11 PB56B/ADC_CN7 (io), U12 PB62A/ADC_CP10 (io), U13 VCCIO3 (power), U14 PB68B/ADC_CN8 (io), U15 PB78A/ADC_CP11 (io), U16 PB80B/ADC_CN12 (io), V11 PB56A/ADC_CP7 (io), V12 PB60B/ADC_CN9 (io), V14 PB68A/ADC_CP8 (io), V15 VCCIO3 (power), V16 PB78B/ADC_CN11 (io), V17 PB80A/ADC_CP12 (io), W11 PB54A/PCLKT3_0/VREF3_1/ADC_CP5 (io), W12 PB58B/PCLKC3_1/ADC_CN6 (io), W13 PB60A/ADC_CP9 (io), W14 PB72A/PCLKT3_2/ADC_CP13 (io), W15 PB72B/PCLKC3_2/ADC_CN13 (io), W17 PB82B/ADC_CN15 (io), W18 PB84A/LRC_GPLL0T_IN (io), Y11 PB54B/PCLKC3_0/ADC_CN5 (io), Y12 PB58A/PCLKT3_1/ADC_CP6 (io), Y13 PB66A/COMP1IP (io), Y14 PB66B/COMP1IN (io), Y15 PB76A/COMP3IP (io), Y16 PB76B/COMP3IN (io), Y17 PB82A/ADC_CP15 (io), Y18 PB84B/LRC_GPLL0C_IN/VREF3_2 (io)
part E pins: P7 PB26A (io), P8 PB26B (io), P9 PB32B (io), P10 PB34A (io), P11 PB46A (io), R7 PB18A/PCLKT4_3 (io), R8 PB28A (io), R9 PB32A (io), R10 PB34B (io), R11 PB46B/VREF4_2 (io), T6 PB16A/VREF4_1 (io), T7 PB18B/PCLKC4_3 (io), T8 PB28B (io), T9 VCCIO4 (power), T10 PB40A/PCLKT4_1 (io), T11 PB40B/PCLKC4_1 (io), U6 PB16B (io), U7 PB20B (io), U10 PB42A (io), V6 PB20A (io), V7 PB24B/PCLKC4_2 (io), V8 VCCIO4 (power), V9 PB36B (io), V10 PB42B (io), W6 PB22A (io), W7 PB24A/PCLKT4_2 (io), W8 PB36A (io), W9 PB38A (io), W10 PB44A/PCLKT4_0 (io), Y6 PB22B (io), Y7 PB30A (io), Y8 PB30B (io), Y9 PB38B (io), Y10 PB44B/PCLKC4_0 (io)
part F pins: R5 PB10A/PCLKT5_2/ADC_CP2/COMP3P (io), R6 PB10B/PCLKC5_2/ADC_CN2/COMP3N (io), T1 PB4B/CDR_RXN0/ADC_CN0/COMP1N (io), T2 NC40 (io), T3 NC38 (io), T4 NC33 (io), T5 NC30 (io), U1 PB4A/CDR_RXP0/VREF5_1/ADC_CP0/COMP1P (io), U2 NC41 (io), U3 NC39 (io), U4 NC34 (io), U5 NC31 (io), V1 PB6A/PCLKT5_0/CDR_RXP1/ADC_CP1/COMP2P (io), V2 NC42 (io), V3 VCCIO5 (power), V4 NC35 (io), V5 NC32 (io), W1 PB6B/PCLKC5_0/CDR_RXN1/ADC_CN1/COMP2N (io), W2 NC43 (io), W4 NC36 (io), W5 PB12B/PCLKC5_3/VREF5_2 (io), Y2 PB8A/PCLKT5_1/LLC_GPLL0T_IN/ADC_CP3 (io), Y3 PB8B/PCLKC5_1/LLC_GPLL0C_IN/ADC_CN3 (io), Y4 NC37 (io), Y5 PB12A/PCLKT5_3 (io)
part G pins: K5 PL24A (io), K6 PL24B (io), K7 PL26A (io), K8 PL26B (io), L1 PL27A (io), L2 PL27B (io), L3 VCCIO6 (power), L5 PL30A/PCLKT6_0 (io), L6 PL30B (io), L7 PL32A/PCLKT6_1 (io), L8 PL32B (io), M1 NC47 (io), M2 PL34A/PCLKT6_2 (io), M3 PL34B (io), M4 PL36A (io), M5 PL36B (io), M6 PL38A (io), M7 PL38B (io), N1 NC46 (io), N2 NC45 (io), N3 NC44 (io), N4 PL40A (io), N5 PL40B (io), N6 PL42A (io), N7 PL42B (io), P1 PL44A (io), P2 PL44B (io), P3 VCCIO6 (power), P5 PL46A (io), P6 PL46B (io), R1 PL47A (io), R2 PL47B (io), R3 PL49A (io), R4 PL49B (io)
part H pins: D3 PL8B (io), D4 PL8A (io), D5 PL6B (io), D6 PL6A (io), D7 PL4A (io), D8 PL4B (io), D9 PL3B/ULC_GPLL0C_IN (io), D10 PL3A/ULC_GPLL0T_IN (io), E2 PL15A (io), E3 PL13B (io), E4 PL13A (io), E5 VCCIO7 (power), E7 PL11A (io), E8 PL11B (io), E9 PL10B (io), E10 PL10A (io), F1 PL15B (io), F2 NC65 (io), F3 NC64 (io), F4 NC51 (io), F5 NC50 (io), F6 NC49 (io), F7 NC48 (io), F8 NC61 (io), G1 NC53 (io), G2 NC52 (io), G3 NC70 (io), G4 NC67 (io), G5 NC66 (io), G6 NC60 (io), G7 NC59 (io), G8 NC54 (io), H1 NC63 (io), H2 NC62 (io), H3 VCCIO7 (power), H5 NC58 (io), H6 NC57 (io), H7 NC56 (io), H8 NC55 (io), J1 PL17B (io), J2 PL17A/PCLKT7_2 (io), J3 NC74 (io), J4 NC73 (io), J5 NC72 (io), J6 NC71 (io), J7 NC69 (io), J8 NC68 (io), K1 PL19B (io), K2 PL19A/PCLKT7_1 (io), K3 PL20A/PCLKT7_0 (io), K4 PL20B (io)
part I pins: A2 DPHY0_CKP (io), A3 DPHY0_DP1 (io), A4 DPHY0_DP3 (io), B1 DPHY0_CKN (io), B2 DPHY0_DP0 (io), B3 DPHY0_DN1 (io), B4 DPHY0_DN3 (io), B5 VCCPLLDPHY0 (power), C1 DPHY0_DN0 (io), C2 DPHY0_DP2 (io), C4 VCCDPHY0 (power), D1 DPHY0_DN2 (io), D2 VCCADPHY0 (power)
part J pins: A6 DPHY1_DP2 (io), A7 DPHY1_DP0 (io), A8 DPHY1_CKP (io), A9 DPHY1_DP1 (io), A10 DPHY1_DP3 (io), B6 DPHY1_DN2 (io), B7 DPHY1_DN0 (io), B8 DPHY1_CKN (io), B9 DPHY1_DN1 (io), B10 DPHY1_DN3 (io), C5 VCCDPHY1 (power), C7 VCCADPHY1 (power), C9 VCCPLLDPHY1 (power)
part K pins: N13 ADC_REFP0 (in), P14 ADC_REFP1 (in), R14 VSSADC (power), R15 VCCADC18 (power), R16 ADC_DP0 (in), T16 ADC_DN0 (in), T17 ADC_DP1 (in), U17 ADC_DN1 (in)
part L pins: A12 SD0_TXDN (in), A13 SD0_TXDP (in), A15 SD0_RXDN (out), A16 SD0_RXDP (out), B11 VCCAUXSD, B13 VCCSD0_2, B14 SD0_REFRET (in), B15 VCCSD0_1, C11 SD0_REFCLKN (in), C12 SD0_REFCLKP (in), C13 VCCPLLSD0 (power), C14 SD0_REXT (in)
part M pins: A18 NC78 (io), A19 NC77 (in), B17 NC81 (in), B18 NC79 (in), B20 NC75 (in), C18 NC80 (io), C20 NC76 (out)
part N pins: F9 VCC (power), F12 VCC (power), H9 VCCAUX (power), H12 VCCAUXA (power), J9 VCC (power), J12 VCC (power), K9 VCCAUX (power), K12 VCCAUX (power), L9 VCC (power), L12 VCC (power), N8 VCCAUXH5 (power), N9 VCC (power), N10 VCCAUXH4 (power), N11 VCC (power), N12 VCCAUXH3 (power)
part O pins: A1 VSSADPHY (power), A5 VSSADPHY (power), A11 VSSSD5 (power), A14 VSSSD6 (power), A17 VSSSD11, A20 VSSSD3 (power), B12 VSSSD4 (power), B16 VSSSD9, B19 VSSSD2 (power), C3 VSSADPHY (power), C6 VSSADPHY (power), C8 VSSADPHY (power), C10 VSSADPHY (power), C15 VSSSD1 (power), C16 NC83 (io), C17 VSSSD10, C19 VSSSD8, D18 NC82 (io), D19 VSSSD12, D20 VSSSD7, E1 VSSADPHY (power), E6 VSS (power), E14 VSS (power), F10 VSS (power), F11 VSS (power), G9 VSS (power), G10 VSS (power), G11 VSS (power), G12 VSS (power), G16 VSS (power), H4 VSS (power), H10 VSS (power), H11 VSS (power), J10 VSS (power), J11 VSS (power), J17 VSS (power), K10 VSS (power), K11 VSS (power), L4 VSS (power), L10 VSS (power), L11 VSS (power), M8 VSS (power), M9 VSS (power), M10 VSS (power), M11 VSS (power), M12 VSS (power), M13 VSS (power), N18 VSS (power), P4 VSS (power), T15 VSS (power), T19 VSS (power), U8 VSS (power), U9 VSS (power), V13 VSS (power), W3 VSS (power), W16 VSS (power), Y1 VSS (power), Y20 VSS (power)

## LT3508EUF-QFN24UF-4X4_0
designator U?, comment LT3508EUF
UCOST: $0.00; DES: IC, LINEAR TECH, LTC1563; Value: LT3508EUF
footprint QFN24UF-4X4
pins: 1 FB1, 2 TRACK/SS1, 3 GND1, 4 GND2, 5 GND3, 6 GND4, 7 BOOST1, 8 SW1, 9 VIN1, 10 VIN2, 11 SW2, 12 BOOST2, 13 GND6, 14 GND7, 15 GND8, 16 GND9, 17 TRACK/SS2, 18 FB2, 19 VC2, 20 PG2, 21 ~{SHDN}, 22 RT/SYNC, 23 PG1, 24 VC1, 25 GND5

## MAX6070BAUT18+T
designator U?
pins: 1 IN, 2 EN, 3 FILTER, 4 OUTF, 5 OUTS, 6 GND

## MAX6070BAUT18+T_0
designator U?
pins: 1 FILTER, 2 GND, 3 EN, 4 IN, 5 OUTS, 6 OUTF

## MAX6070BAUT18+T_0_1
designator U?
pins: 1 FILTER, 2 GND, 3 EN, 4 IN, 5 OUTS, 6 OUTF

## N25QxxxA13xF8_0
designator U?
footprint SO16W
pins: 1 CS#, 2 S0/SIO1, 3 W#/SIO2, 4 GND (power), 5 SI/SIO0, 6 SCLK, 7 RESET#/SIO3, 8 VCC (power)

## NCP110AMX120TBG
designator U?
pins: 1 OUT, 2 GND, 3 EN, 4 IN, 5 EPAD

## NCP110AMX280TBG
designator U?
pins: 1 OUT, 2 GND, 3 EN, 4 IN, 5 EPAD

## OFFPAGELEFT-L
designator *  (value not drawn)  (graphical)
pins: $PIN0 (in) hidden

## OFFPAGELEFT-L_Dup1
designator *  (value not drawn)  (graphical)
pins: $PIN0 (in) hidden

## OFFPAGELEFT-L_Dup2
designator *  (value not drawn)  (graphical)
pins: $PIN0 (in) hidden

## OFFPAGELEFT-R
designator *  (value not drawn)  (graphical)
pins: $PIN0 (in) hidden

## OFFPAGELEFT-R_Dup1
designator *  (value not drawn)  (graphical)
pins: $PIN0 (in) hidden

## OFFPAGELEFT-R_Dup2
designator *  (value not drawn)  (graphical)
pins: $PIN0 (in) hidden

## OSC_25MHz_10PPM
designator IC?, comment ASFLMB-25MHZ
OSC MEMS 25.000MHZ CMOS SMD; MFG: Abracon Corporation; Total Area(sq-mm): 16.83; MFG P/N: ASFLMB-25.000MHZ-LY-T; Unit Price (USD): 1.96; Length(mm: 5.1; Width(mm): 3.3; Value: ASFLMB-25MHZ
pins: 1 STDBY# (in), 2 GND (power), 3 OUT, 4 VDD (power)

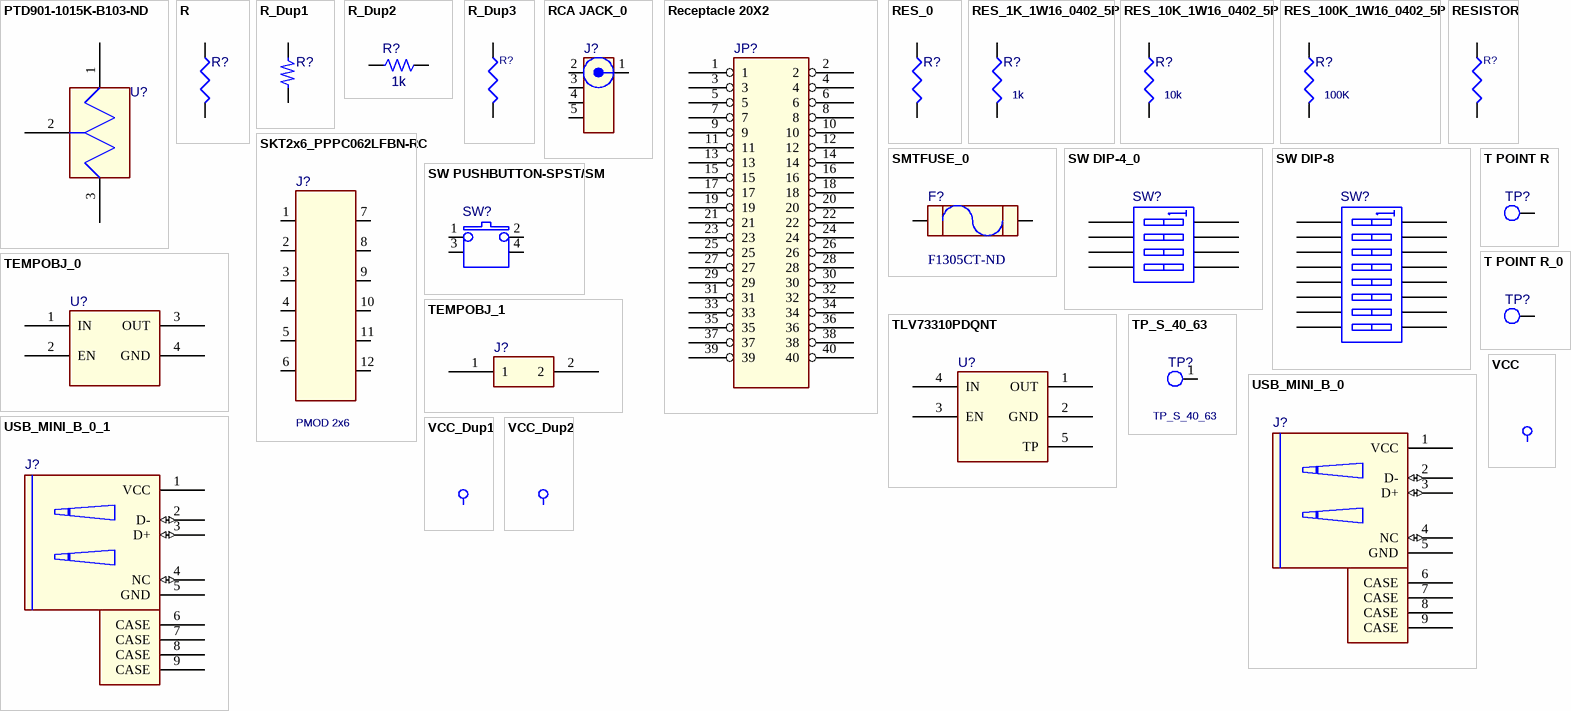
[diagram p7: symbols PTD901-1015K-B103-ND to VCC_Dup2]

## PTD901-1015K-B103-ND
designator U?
pins: 1, 2, 3

## R
designator R?
footprint 1206
pins: 1, 2

## R_Dup1
designator R?
footprint 0603
pins: 1, 2

## R_Dup2
designator R?, comment 1k
DIST: FLAT; PSpiceTemplate: R^@REFDES %1 %2 ?TOLERANCE|R^@REFDES| @VALUE  ?TOLERANCE|\n.model R^@REFDES RES R=1 DEV=@TOLERANCE%|; VOLTAGE: RVMAX; SLOPE: RSMAX; MAX_TEMP: RTMAX; POWER: RMAX; Value: 1k
footprint AX/RC05
simulation model R_Dup2
pins: 1, 2

## R_Dup3
designator R?
pins: 1, 2

## RCA JACK_0
designator J?
pins: 1 CENTER, 2 SHIELD1, 3 SHIELD2, 4 SHIELD3, 5 SHIELD4

## Receptacle 20X2
designator JP?
pins: 1, 2, 3, 4, 5, 6, 7, 8, 9, 10, 11, 12, 13, 14, 15, 16, 17, 18, 19, 20, 21, 22, 23, 24, 25, 26, 27, 28, 29, 30, 31, 32, 33, 34, 35, 36, 37, 38, 39, 40

## RES_0
designator R?
footprint RES
pins: 1, 2

## RES_1K_1W16_0402_5P
designator R?, comment 1k
RES 1K OHM 1/16W 5% 0402; Unit Price (USD): 0.02; Total Area(sq-mm): 0.5; DIST: FLAT; MAX_TEMP: RTMAX; MFG P/N: RMCF0402JT1K00; MFG: Stackpole Electronics Inc; TC1: 0; Length(mm): 1; Width(mm): 0.5; Wattage: 1/16W; TC2: 0; Value: 1k
footprint R0402
pins: 1, 2

## RES_10K_1W16_0402_5P
designator R?, comment 10k
RES 10K OHM 1/16W 5% 0402; Unit Price (USD): 0.02; Total Area(sq-mm): 0.5; DIST: FLAT; MAX_TEMP: RTMAX; MFG P/N: RMCF0402JT10K0; MFG: Stackpole Electronics Inc; TC1: 0; Length(mm): 1; Width(mm): 0.5; Wattage: 1/16W; TC2: 0; Value: 10k
footprint R0402
pins: 1, 2

## RES_100K_1W16_0402_5P
designator R?, comment 100K
RES 100K OHM 1/16W 5% 0402; Unit Price (USD): 0.02; Total Area(sq-mm): 0.5; DIST: FLAT; MAX_TEMP: RTMAX; MFG P/N: RMCF0402JT100K; MFG: Stackpole Electronics Inc; TC1: 0; Length(mm): 1; Width(mm): 0.5; Wattage: 1/16W; TC2: 0; Value: 100K
footprint R0402
pins: 1, 2

## RESISTOR
designator R?
pins: 1, 2

## SKT2x6_PPPC062LFBN-RC
designator J?, comment PMOD 2x6
CONN HEADER FMAL 12PS.1" DL GOLD; MFG: Sullins; Cost Ea/1k: 0.44370; MFG P/N: PPPC062LFBN-RC; Digikey P/N: S7109-ND; Value: PMOD 2x6
footprint skt_sullins_pppc062_2x6_100
pins: 1, 2, 3, 4, 5, 6, 7, 8, 9, 10, 11, 12

## SMTFUSE_0
designator F?, comment F1305CT-ND
2A Slo-Blo Socketed Fuse; Value: F1305CT-ND
footprint SMTFUSE
pins: 1, 2

## SW DIP-4_0
designator SW?
pins: 1 A1, 2 A2, 3 A3, 4 A4, 5 B4, 6 B3, 7 B2, 8 B1

## SW DIP-8
designator SW?
pins: 1 A1, 2 A2, 3 A3, 4 A4, 5 A5, 6 A6, 7 A7, 8 A8, 9 B8, 10 B7, 11 B6, 12 B5, 13 B4, 14 B3, 15 B2, 16 B1

## SW PUSHBUTTON-SPST/SM
designator SW?
pins: 1, 2, 3, 4

## T POINT R
designator TP?
pins: 1 TP

## T POINT R_0
designator TP?
pins: 1 TP

## TEMPOBJ_0
designator U?
pins: 1 IN, 2 EN, 3 OUT, 4 GND

## TEMPOBJ_1
designator J?
pins: 1, 2

## TLV73310PDQNT
designator U?
pins: 1 OUT, 2 GND, 3 EN, 4 IN, 5 TP

## TP_S_40_63
designator TP?
Square test point, 40mil inner diameter, 63mil outer diameter; Class: IO; Value: TP_S_40_63
footprint tp_s_40_63
pins: 1 TP

## USB_MINI_B_0
designator J?
pins: 1 VCC (power), 2 D- (io), 3 D+ (io), 4 NC (io), 5 GND (power), 6 CASE (power), 7 CASE (power), 8 CASE (power), 9 CASE (power)

## USB_MINI_B_0_1
designator J?
pins: 1 VCC (power), 2 D- (io), 3 D+ (io), 4 NC (io), 5 GND (power), 6 CASE (power), 7 CASE (power), 8 CASE (power), 9 CASE (power)

## VCC
designator *  (value not drawn)  (graphical)
pins: $PIN0 (power) hidden to $PIN0

## VCC_Dup1
designator *  (value not drawn)  (graphical)
pins: $PIN0 (power) hidden to $PIN0

## VCC_Dup2
designator *  (value not drawn)  (graphical)
pins: $PIN0 (power) hidden to $PIN0